# EAGLE library part MRF24J40MA (library 4534_Node_Board)
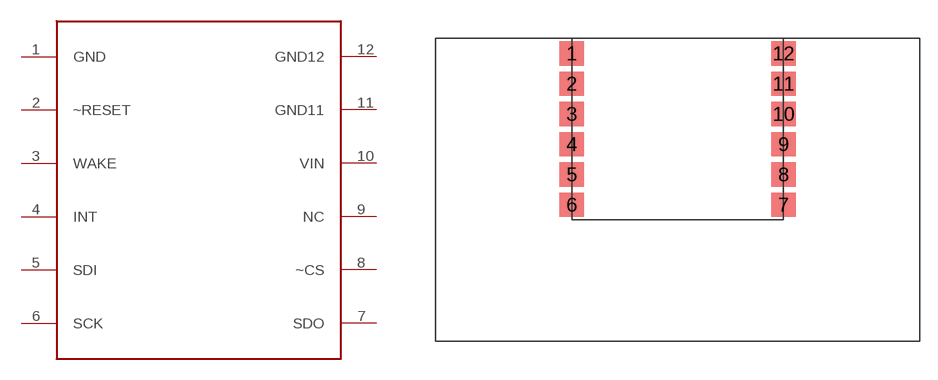
[diagram p1: symbol with the pads of PCB12; footprint PCB12]

Designator prefix -

## MRF24J40MA  [PCB12]
1  GND
2  ~RESET
3  WAKE
4  INT
5  SDI
6  SCK
7  SDO
8  ~CS
9  NC
10  VIN
11  GND11
12  GND12

## Footprint PCB12 (pad centres in mm)
smd 2.032 x 2.032: 1 -8.89,8.89; 2 -8.89,6.35; 3 -8.89,3.81; 4 -8.89,1.27; 5 -8.89,-1.27; 6 -8.89,-3.81; 7 8.89,-3.81; 8 8.89,-1.27; 9 8.89,1.27; 10 8.89,3.81; 11 8.89,6.35; 12 8.89,8.89